# EAGLE library part MCP1501 (library dr-library)
High Precision Buffered Voltage Reference Mfg. No. MCP1501T-25E/CHY Series Reference
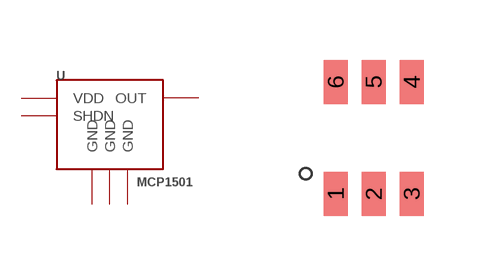
[diagram p22: symbol with the pads of SOT-23-6; footprint SOT-23-6]

Designator prefix U

## MCP1501-CHY  [SOT-23-6]
1  OUT
2  GND
3  GND
4  SHDN
5  GND
6  VDD

## Footprint SOT-23-6 (pad centres in mm)
smd 0.6 x 1.1: 1 -0.95,-1.4; 2 0,-1.4; 3 0.95,-1.4; 4 0.95,1.4; 5 0,1.4; 6 -0.95,1.4